# Altium integrated library Fuse.IntLib: 1 symbol
Pins are listed as number, name and electrical type; pins without a type are passive.

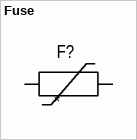
[diagram p0: symbol Fuse]

## Fuse
designator F?
Name: Предохранитель самовостанавливающий; Model: *; Manufacture: *; HelpURL: *; Case: *; Value: *; Power: *; Tolerance: *
footprint R0402
footprint R0603
footprint R1210
footprint R2010
footprint R0805
footprint R1206
footprint R2512
pins: 1 "Вход", 2 "Вход"